# Altium footprint library 16PIN光耦座.PcbLib: 1 footprints
Each footprint in its own frame and in the unit in brackets; x right, y up, seen from the top. Pads: shape width x height; smd on the part's side, far side on the other; paste and mask are expansions set on the pad; w line width, h text height; cw(c..) or ccw(c..) is an arc to the next point about the centre after c.
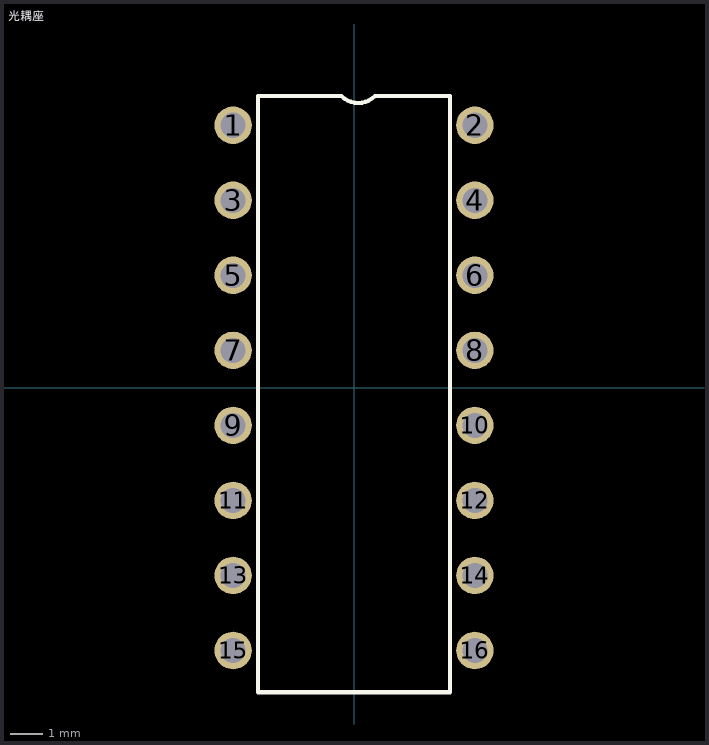
[diagram p0: the footprint, top view; thin cyan lines are the x and y axes]

## 光耦座 [mil] "16PIN"
pads (16):
  round 45 hole 30: 1(-145,315) 2(145,315) 3(-145,225) 4(145,225) 5(-145,135) 6(145,135) 7(-145,45) 8(145,45) 9(-145,-45) 10(145,-45) 11(-145,-135) 12(145,-135) 13(-145,-225) 14(145,-225) 15(-145,-315) 16(145,-315)
Top Overlay:
  lines w5: -115,-365 -115,350 -15,350 ccw(c5,370) 25,350 115,350 115,-365 -115,-365